# Altium footprint library linear.PCBLIB: 119 footprints (part 8 of 8)
Each footprint in its own frame and in the unit in brackets; x right, y up, seen from the top. Pads: shape width x height; smd on the part's side, far side on the other; paste and mask are expansions set on the pad; w line width, h text height; cw(c..) or ccw(c..) is an arc to the next point about the centre after c.
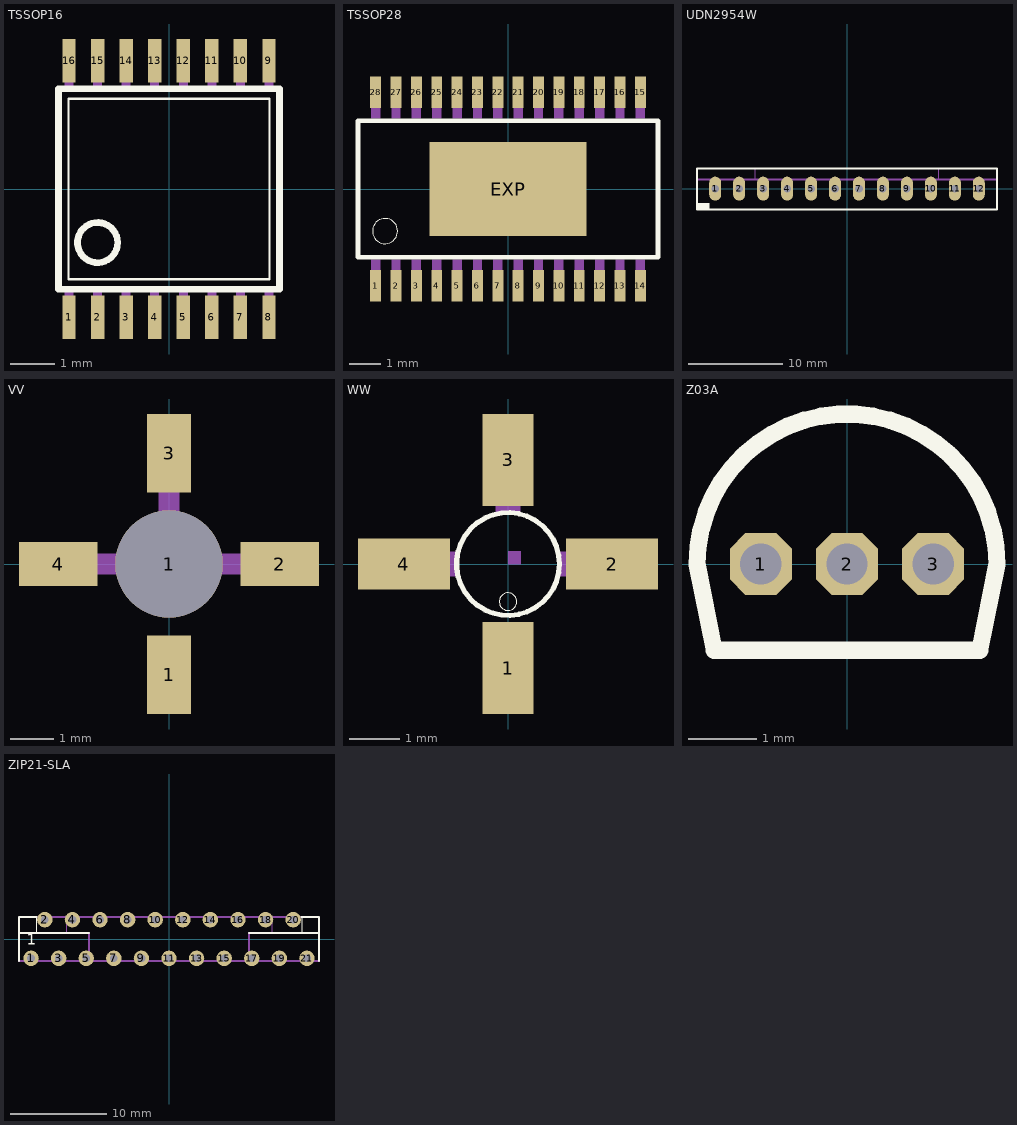
[diagram p7: the footprints below, top view; thin cyan lines are the x and y axes]

## TSSOP16 [mil]
pads (16):
  rect 12x39 smd: 1(-89.57,-114.87) 2(-63.98,-114.87) 3(-38.39,-114.87) 4(-12.8,-114.87) 5(12.8,-114.87) 6(38.39,-114.87) 7(63.98,-114.87) 8(89.57,-114.87) 9(89.57,114.87) 10(63.98,114.87) 11(38.39,114.87) 12(12.8,114.87) 13(-12.8,114.87) 14(-38.39,114.87) 15(-63.98,114.87) 16(-89.57,114.87)
Top Overlay:
  circle w6: c-64,-48 r18
  lines w2: -90,-80.87 90,-80.87 90,80.87 -90,80.87 -90,-80.87
  lines w6: -99,-89.87 99,-89.87 99,89.87 -99,89.87 -99,-89.87
Mechanical 16:
  rectangle: -93.57,-122.87 -85.57,-89.87
  rectangle: -67.98,-122.87 -59.98,-89.87
  rectangle: -42.39,-122.87 -34.39,-89.87
  rectangle: -16.8,-122.87 -8.8,-89.87
  rectangle: 8.8,-122.87 16.8,-89.87
  rectangle: 34.39,-122.87 42.39,-89.87
  rectangle: 59.98,-122.87 67.98,-89.87
  rectangle: 85.57,-122.87 93.57,-89.87
  rectangle: 85.57,89.87 93.57,122.87
  rectangle: 59.98,89.87 67.98,122.87
  rectangle: 34.39,89.87 42.39,122.87
  rectangle: 8.8,89.87 16.8,122.87
  rectangle: -16.8,89.87 -8.8,122.87
  rectangle: -42.39,89.87 -34.39,122.87
  rectangle: -67.98,89.87 -59.98,122.87
  rectangle: -93.57,89.87 -85.57,122.87

## TSSOP28 [mm]
pads (29):
  rect 0.35x1 smd: 1(-4.225,-3.088) 2(-3.575,-3.088) 3(-2.925,-3.088) 4(-2.275,-3.088) 5(-1.625,-3.088) 6(-0.975,-3.088) 7(-0.325,-3.088) 8(0.325,-3.088) 9(0.975,-3.088) 10(1.625,-3.088) 11(2.275,-3.088) 12(2.925,-3.088) 13(3.575,-3.088) 14(4.225,-3.088) 15(4.225,3.088) 16(3.575,3.088) 17(2.925,3.088) 18(2.275,3.088) 19(1.625,3.088) 20(0.975,3.088) 21(0.325,3.088) 22(-0.325,3.088) 23(-0.975,3.088) 24(-1.625,3.088) 25(-2.275,3.088) 26(-2.925,3.088) 27(-3.575,3.088) 28(-4.225,3.088)
  rect 5x3 smd: EXP(0,0)
Top Overlay:
  circle w0: c-3.926,-1.344 r0.401
  lines w0.152: -4.79,-2.183 4.79,-2.183 4.79,2.183 -4.79,2.183 -4.79,-2.183
Mechanical 16:
  rectangle: -4.375,-3.3 -4.075,-2.25
  rectangle: -3.725,-3.3 -3.425,-2.25
  rectangle: -3.075,-3.3 -2.775,-2.25
  rectangle: -2.425,-3.3 -2.125,-2.25
  rectangle: -1.775,-3.3 -1.475,-2.25
  rectangle: -1.125,-3.3 -0.825,-2.25
  rectangle: -0.475,-3.3 -0.175,-2.25
  rectangle: 0.175,-3.3 0.475,-2.25
  rectangle: 0.825,-3.3 1.125,-2.25
  rectangle: 1.475,-3.3 1.775,-2.25
  rectangle: 2.125,-3.3 2.425,-2.25
  rectangle: 2.775,-3.3 3.075,-2.25
  rectangle: 3.425,-3.3 3.725,-2.25
  rectangle: 4.075,-3.3 4.375,-2.25
  region: 4.375,3.3 4.075,3.3 4.075,2.25 4.375,2.25
  region: 3.725,3.3 3.425,3.3 3.425,2.25 3.725,2.25
  region: 3.075,3.3 2.775,3.3 2.775,2.25 3.075,2.25
  region: 2.425,3.3 2.125,3.3 2.125,2.25 2.425,2.25
  region: 1.775,3.3 1.475,3.3 1.475,2.25 1.775,2.25
  region: 1.125,3.3 0.825,3.3 0.825,2.25 1.125,2.25
  region: 0.475,3.3 0.175,3.3 0.175,2.25 0.475,2.25
  region: -0.175,3.3 -0.475,3.3 -0.475,2.25 -0.175,2.25
  region: -0.825,3.3 -1.125,3.3 -1.125,2.25 -0.825,2.25
  region: -1.475,3.3 -1.775,3.3 -1.775,2.25 -1.475,2.25
  region: -2.125,3.3 -2.425,3.3 -2.425,2.25 -2.125,2.25
  region: -2.775,3.3 -3.075,3.3 -3.075,2.25 -2.775,2.25
  region: -3.425,3.3 -3.725,3.3 -3.725,2.25 -3.425,2.25
  region: -4.075,3.3 -4.375,3.3 -4.375,2.25 -4.075,2.25

## UDN2954W [mil]
pads (12):
  oval 50x100 hole 31.5: 1(-550,0) 2(-450,0) 3(-350,0) 4(-250,0) 5(-150,0) 6(-50,0) 7(50,0) 8(150,0) 9(250,0) 10(350,0) 11(450,0) 12(550,0)
Top Overlay:
  rectangle: -625,-86.61 -574.8,-59.06
  lines w8: -625.98,-87.6 625.98,-87.6 625.98,84.65 -625.98,84.65 -625.98,-87.6
Mechanical 16:
  lines w4: -383.86,40.35 -383.86,81.69 ; 383.86,40.35 383.86,80.71
  lines w8: -622.05,37.4 622.05,37.4

## VV [mil]
pads (5):
  rect 40.16x72.05 smd: 1(0,-101.38) 3(0,101.38)
  round 98.43 hole 98.43: 1(0,0)
  rect 72.05x40.16 smd: 2(101.38,0) 4(-101.38,0)
Top Overlay:
  circle w4: c0,0 r40.37
  circle w0: c0,-29.53 r6.89
Mechanical 16:
  rectangle: -125,-9.84 -39.96,9.84
  region: 125,9.84 39.96,9.84 39.96,-9.84 125,-9.84
  region: -9.84,125 -9.84,39.96 9.84,39.96 9.84,125
  region: 0,0 10,0 10,10 0,10

## WW [mil]
pads (4):
  rect 40.16x72.05 smd: 1(0,-81.69) 3(0,81.69)
  rect 72.05x40.16 smd: 2(81.69,0) 4(-81.69,0)
Top Overlay:
  circle w4: c0,0 r40.37
  circle w0: c0,-29.53 r6.89
Mechanical 16:
  rectangle: -92.52,-9.84 -39.96,9.84
  region: 92.52,9.84 39.96,9.84 39.96,-9.84 92.52,-9.84
  region: -9.84,92.52 -9.84,39.96 9.84,39.96 9.84,92.52
  region: 0,0 10,0 10,10 0,10

## Z03A [mil]
pads (3):
  oct 36x36 hole 24: 1(-50,0) 2(0,0) 3(50,0)
Top Overlay:
  lines w10: -87,0 cw(c0,0) 87,0 77,-50 -77,-50 -87,0

## ZIP21-SLA [mil]
pads (21):
  round 62.99 hole 31.5: 1(-562.99,-78.74) 2(-506.69,78.74) 3(-450.39,-78.74) 4(-394.09,78.74) 5(-337.8,-78.74) 6(-281.5,78.74) 7(-225.2,-78.74) 8(-168.9,78.74) 9(-112.6,-78.74) 10(-56.3,78.74) 11(0,-78.74) 12(56.3,78.74) 13(112.6,-78.74) 14(168.9,78.74) 15(225.2,-78.74) 16(281.5,78.74) 17(337.8,-78.74) 18(394.09,78.74) 19(450.39,-78.74) 20(506.69,78.74) 21(562.99,-78.74)
Top Overlay:
  lines w4: -541.34,25.59 -541.34,90.55 ; 541.34,25.59 541.34,90.55
  lines w8: -612.2,-90.55 -612.2,90.55 -541.34,90.55 ; -610.24,23.62 -326.77,23.62 ; 326.77,23.62 608.27,23.62 ; 541.34,90.55 612.2,90.55 612.2,-90.55
  text "1" at -580,-40 h77.5
Mechanical 16:
  lines w4: -419.29,25.59 -419.29,88.58 ; 419.29,25.59 419.29,88.58
  lines w8: -612.2,-90.55 612.2,-90.55 ; -541.34,90.55 541.34,90.55 ; -326.77,-86.61 -326.77,23.62 ; 326.77,-86.61 326.77,23.62